# EAGLE library part JS202011SCQN (library Badge)
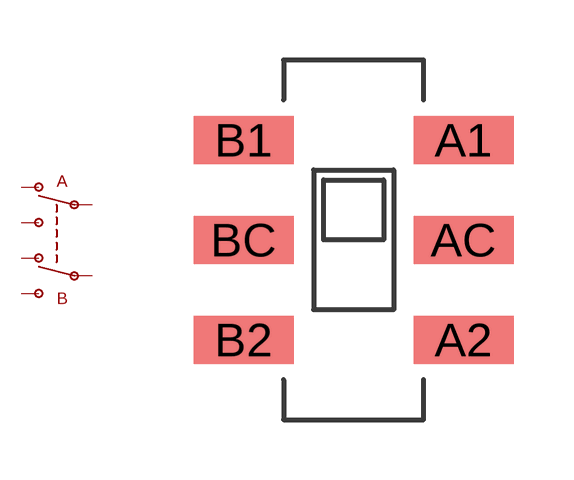
[diagram p5: symbol with the pads of JS202011SCQN; footprint JS202011SCQN]

Designator prefix S

## JS202011SCQN  [JS202011SCQN]
A1  A1
A2  A2
AC  AC
B1  B1
B2  B2
BC  BC

## Footprint JS202011SCQN (pad centres in mm)
smd 2.5 x 1.2: A1 2.75,2.5; A2 2.75,-2.5; AC 2.75,0; B1 -2.75,2.5; B2 -2.75,-2.5; BC -2.75,0